# Altium footprint library MICROCOMMERCIAL_DFN1006-2_NPOL.PcbLib: 1 footprints
Each footprint in its own frame and in the unit in brackets; x right, y up, seen from the top. Pads: shape width x height; smd on the part's side, far side on the other; paste and mask are expansions set on the pad; w line width, h text height; cw(c..) or ccw(c..) is an arc to the next point about the centre after c.
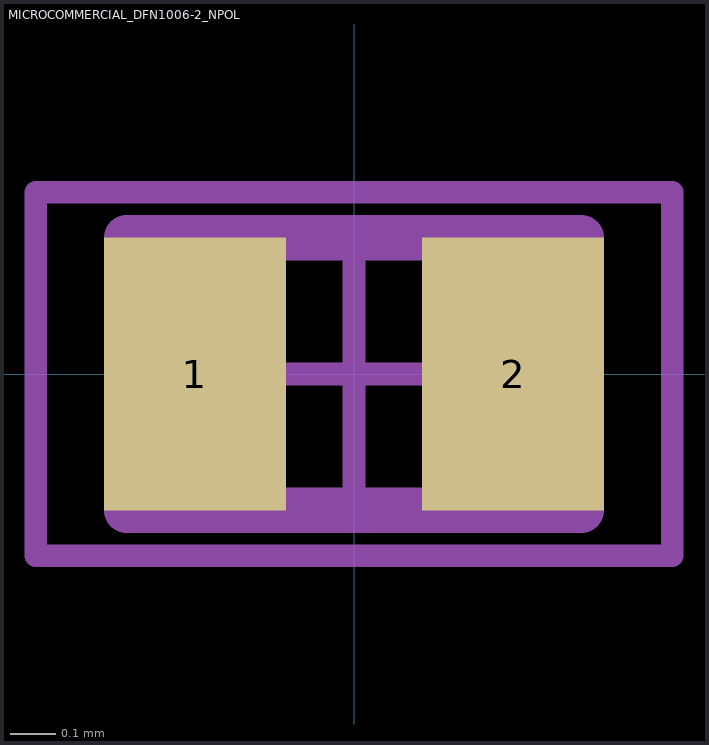
[diagram p0: the footprint, top view; thin cyan lines are the x and y axes]

## MICROCOMMERCIAL_DFN1006-2_NPOL [mm] "MICROCOMMERCIAL_DFN1006-2_NPOL"
height 0.55
pads (2):
  rect 0.4x0.6 smd: 1(-0.35,0) 2(0.35,0)
Mechanical 13:
  lines w0.1: -0.5,-0.3 0.5,-0.3 0.5,0.3 -0.5,0.3 -0.5,-0.3
Mechanical 15:
  lines w0.05: -0.25,0 0.25,0 ; 0,-0.25 0,0.25 ; -0.7,-0.4 0.7,-0.4 0.7,0.4 -0.7,0.4 -0.7,-0.4
3D body: height 0.55, standoff 0, extent -0.5,-0.3 0.5,0.3